# Altium footprint library LED_SMD0603.PcbLib: 1 footprints
Each footprint in its own frame and in the unit in brackets; x right, y up, seen from the top. Pads: shape width x height; smd on the part's side, far side on the other; paste and mask are expansions set on the pad; w line width, h text height; cw(c..) or ccw(c..) is an arc to the next point about the centre after c.
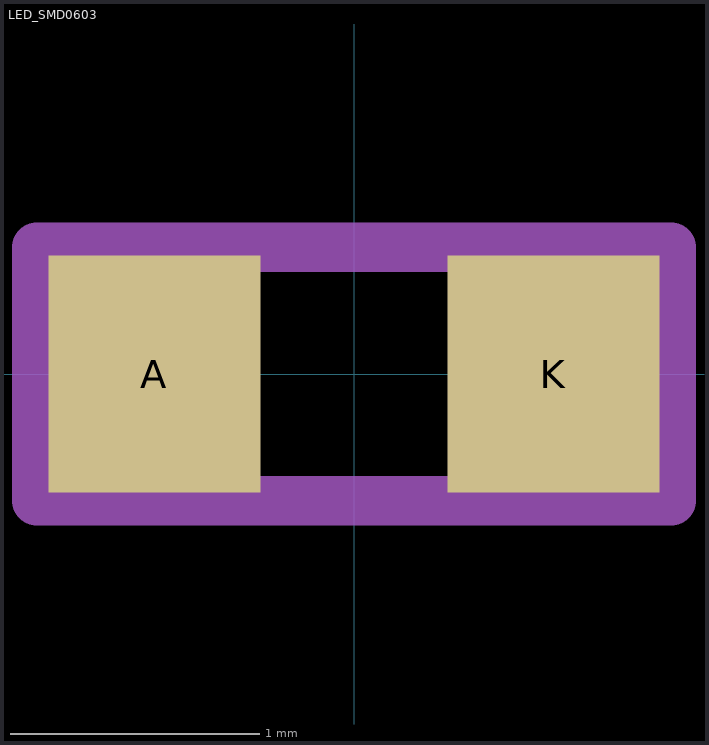
[diagram p0: the footprint, top view; thin cyan lines are the x and y axes]

## LED_SMD0603 [mm] "Chip Resistor, 2-Leads, Body 1,6x0,8mm, IPC Medium Density"
height 0.9
pads (2):
  rect 0.85x0.95 smd: A(-0.8,0) K(0.8,0)
Mechanical 13:
  lines w0.2: -1.27,-0.508 -1.27,0.508 1.27,0.508 1.27,-0.508 -1.27,-0.508
  text ".Designator" at -1.016,-0.305 h1
3D body: height 0.68, standoff 0, extent -0.825,-0.381 0.825,0.344